# EAGLE library part MAX4377 (library everykey)
Maxim dual high-side current-sense amplifiers with internal gain
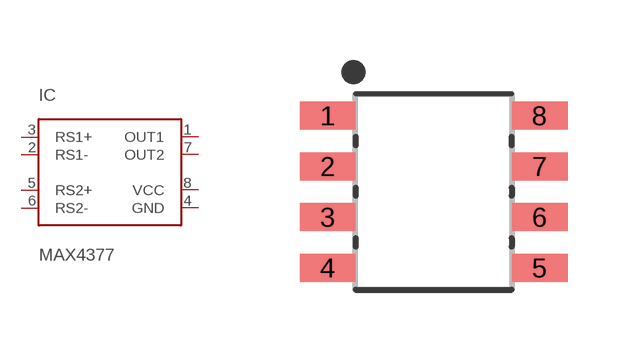
[diagram p69: symbol with the pads of SOIC8-150MIL; footprint SOIC8-150MIL]

Designator prefix IC

## MAX4377-SO  [SOIC8-150MIL]
1  OUT1  out
2  RS1-  in
3  RS1+  in
4  GND  pwr
5  RS2+  in
6  RS2-  in
7  OUT2  out
8  VCC  pwr

## Footprint SOIC8-150MIL (pad centres in mm)
SOIC-8 package for 150mil (3.8-4mm) wide body.
smd 1.4 x 0.7: 1 -2.65,1.905; 2 -2.65,0.635; 3 -2.65,-0.635; 4 -2.65,-1.905; 5 2.65,-1.905; 6 2.65,-0.635; 7 2.65,0.635; 8 2.65,1.905